# EAGLE library part AD8220ARMZ (library faout)
JFET Input Instrumentation Amplifier with JFET Input Instrumentation Amplifier with Rail-to-Rail Output in MSOP Package
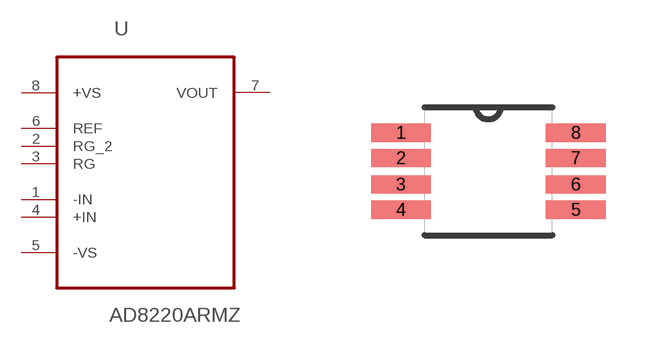
[diagram p5: symbol with the pads of SOP65P490X110-8N; footprint SOP65P490X110-8N]

Designator prefix U

## AD8220ARMZ (MPN: AD8220ARMZ; OC_FARNELL: 1274225; OC_NEWARK: 31M4503; PACKAGE: MSOP-8; SUPPLIER: Analog Devices)  [SOP65P490X110-8N]
1  -IN  in
2  RG_2  pas
3  RG  pas
4  +IN  in
5  -VS  pwr
6  REF  pas
7  VOUT  out
8  +VS  pwr

## Footprint SOP65P490X110-8N (pad centres in mm)
smd 1.499 x 0.457: 1 -2.184,0.965; 2 -2.184,0.33; 3 -2.184,-0.33; 4 -2.184,-0.965; 5 2.184,-0.965; 6 2.184,-0.33; 7 2.184,0.33; 8 2.184,0.965